# Altium footprint library Diodes.PcbLib: 6 footprints
Each footprint in its own frame and in the unit in brackets; x right, y up, seen from the top. Pads: shape width x height; smd on the part's side, far side on the other; paste and mask are expansions set on the pad; w line width, h text height; cw(c..) or ccw(c..) is an arc to the next point about the centre after c.
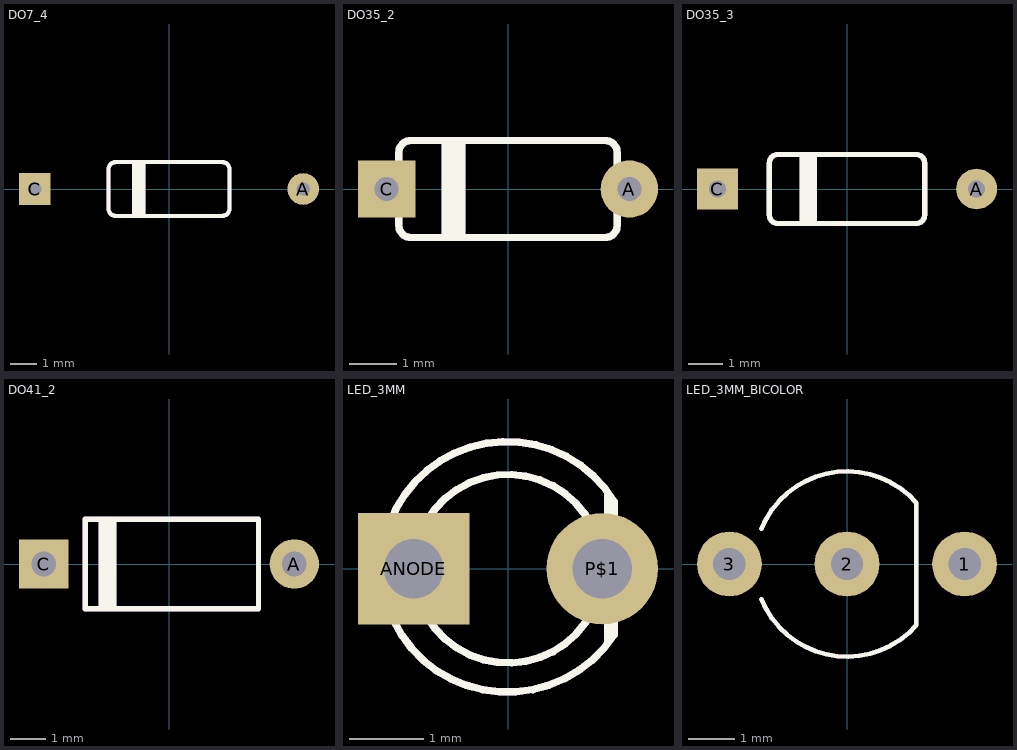
[diagram p0: the footprints below, top view; thin cyan lines are the x and y axes]

## DO7_4 [mil]
pads (2):
  round 47.24 hole 19.69: A(200,0)
  rect 47.24x47.24 hole 19.69: C(-200,0)
Top Overlay:
  rectangle: -55,-40 -35,40
  lines w6: -90,-30 ccw(c-80,-30) -80,-40 80,-40 ccw(c80,-30) 90,-30 90,30 ccw(c80,30) 80,40 -80,40 ccw(c-80,30) -90,30 -90,-30
Mechanical 2:
  rectangle: -55,-40 -35,40
  lines w6: -90,-30 ccw(c-80,-30) -80,-40 80,-40 ccw(c80,-30) 90,-30 90,30 ccw(c80,30) 80,40 -80,40 ccw(c-80,30) -90,30 -90,-30
3D body "DO7_4.step": height 69.5, standoff -115, extent -210.49,-34 210.49,35

## DO35_2 [mil]
pads (2):
  round 47.24 hole 19.69: A(100,0)
  rect 47.24x47.24 hole 19.69: C(-100,0)
Top Overlay:
  rectangle: -55,-40 -35,40
  lines w6: -90,-30 ccw(c-80,-30) -80,-40 80,-40 ccw(c80,-30) 90,-30 90,30 ccw(c80,30) 80,40 -80,40 ccw(c-80,30) -90,30 -90,-30
Mechanical 2:
  rectangle: -55,-40 -35,40
  lines w6: -90,-30 ccw(c-80,-30) -80,-40 80,-40 ccw(c80,-30) 90,-30 90,30 ccw(c80,30) 80,40 -80,40 ccw(c-80,30) -90,30 -90,-30
3D body "DO35_2.STEP": height 59.53, standoff -101.89, extent -108.27,-29.53 108.27,29.53

## DO35_3 [mil]
pads (2):
  round 47.24 hole 19.69: A(150,0)
  rect 47.24x47.24 hole 19.69: C(-150,0)
Top Overlay:
  rectangle: -55,-40 -35,40
  lines w6: -90,-30 ccw(c-80,-30) -80,-40 80,-40 ccw(c80,-30) 90,-30 90,30 ccw(c80,30) 80,40 -80,40 ccw(c-80,30) -90,30 -90,-30
Mechanical 2:
  rectangle: -55,-40 -35,40
  lines w6: -90,-30 ccw(c-80,-30) -80,-40 80,-40 ccw(c80,-30) 90,-30 90,30 ccw(c80,30) 80,40 -80,40 ccw(c-80,30) -90,30 -90,-30
3D body "DO35_3.STEP": height 76.85, standoff -98.74, extent -160.24,-38 160.23,37.59

## DO41_2 [mil]
pads (2):
  round 55.12 hole 27.56: A(140,0)
  rect 55.12x55.12 hole 27.56: C(-140,0)
Top Overlay:
  rectangle: -78.5,-50 -58.5,50
  lines w6: -93.5,-50 -93.5,50 -53.5,50 ; -93,-50 100,-50 100,50 -59.5,50
Mechanical 2:
  rectangle: -78.5,-50 -58.5,50
  lines w6: -93.5,-50 -93.5,50 -53.5,50 ; -93,-50 100,-50 100,50 -59.5,50
3D body "DO41_3.STEP": height 111.57, standoff -93.54, extent -153.53,-51.57 153.55,51.58

## LED_3MM [mil]
pads (2):
  rect 59.06x59.06 hole 31.5: ANODE(-50,0)
  round 59.06 hole 31.5: P$1(50,0)
Top Overlay:
  circle w3.94: c0,0 r50
  circle w3.94: c0,0 r50
  lines w3.94: 53,-39 53,40 ; -38,-54 cw(c-0.45,0.9) 56.29,35.63 ; -38,-54 cw(c-0.45,0.9) 56.29,35.63 ; -38,-54 ccw(c-0.32,2.6) 56.29,-35.08 ; -38,-54 ccw(c-0.32,2.6) 56.29,-35.08 ; 56.29,-35.08 56.29,35.63
Mechanical 2:
  circle w3.94: c0,0 r50
  circle w3.94: c0,0 r50
  lines w3.94: 53,-39 53,40 ; -38,-54 cw(c-0.45,0.9) 56.29,35.63 ; -38,-54 ccw(c-0.32,2.6) 56.29,-35.08 ; -38,-54 cw(c-0.45,0.9) 56.29,35.63 ; -38,-54 ccw(c-0.32,2.6) 56.29,-35.08 ; 56.29,-35.08 56.29,35.63
3D body "LED_3MM_RED.step": height 220.91, standoff -113.74, extent -74.8,-74.8 63,74.8
3D body: height 10, standoff 0, extent 160,-20 160,-20
3D body: height 10, standoff 0, extent 160,-20 160,-20

## LED_3MM_BICOLOR [mm]
pads (3):
  round 1.4 hole 0.7: 1(2.54,0) 2(0,0) 3(-2.54,0)
Top Overlay:
  lines w0.1: -1.848,-0.765 ccw(c0,0) 1.498,-1.325 ; -1.848,0.765 cw(c0,0) 1.498,1.325 ; 1.499,-1.324 1.499,1.324
Mechanical 2:
  lines w0.1: -1.848,-0.765 ccw(c0,0) 1.498,-1.325 ; -1.848,0.765 cw(c0,0) 1.498,1.325 ; 1.499,-1.324 1.499,1.324
3D body "LED_3MM_BICOLOR.STEP": height 13.5, standoff -15.9, extent -2.89,-2 2.89,1.7